# Altium footprint library KF350.PcbLib: 14 footprints
Each footprint in its own frame and in the unit in brackets; x right, y up, seen from the top. Pads: shape width x height; smd on the part's side, far side on the other; paste and mask are expansions set on the pad; w line width, h text height; cw(c..) or ccw(c..) is an arc to the next point about the centre after c.
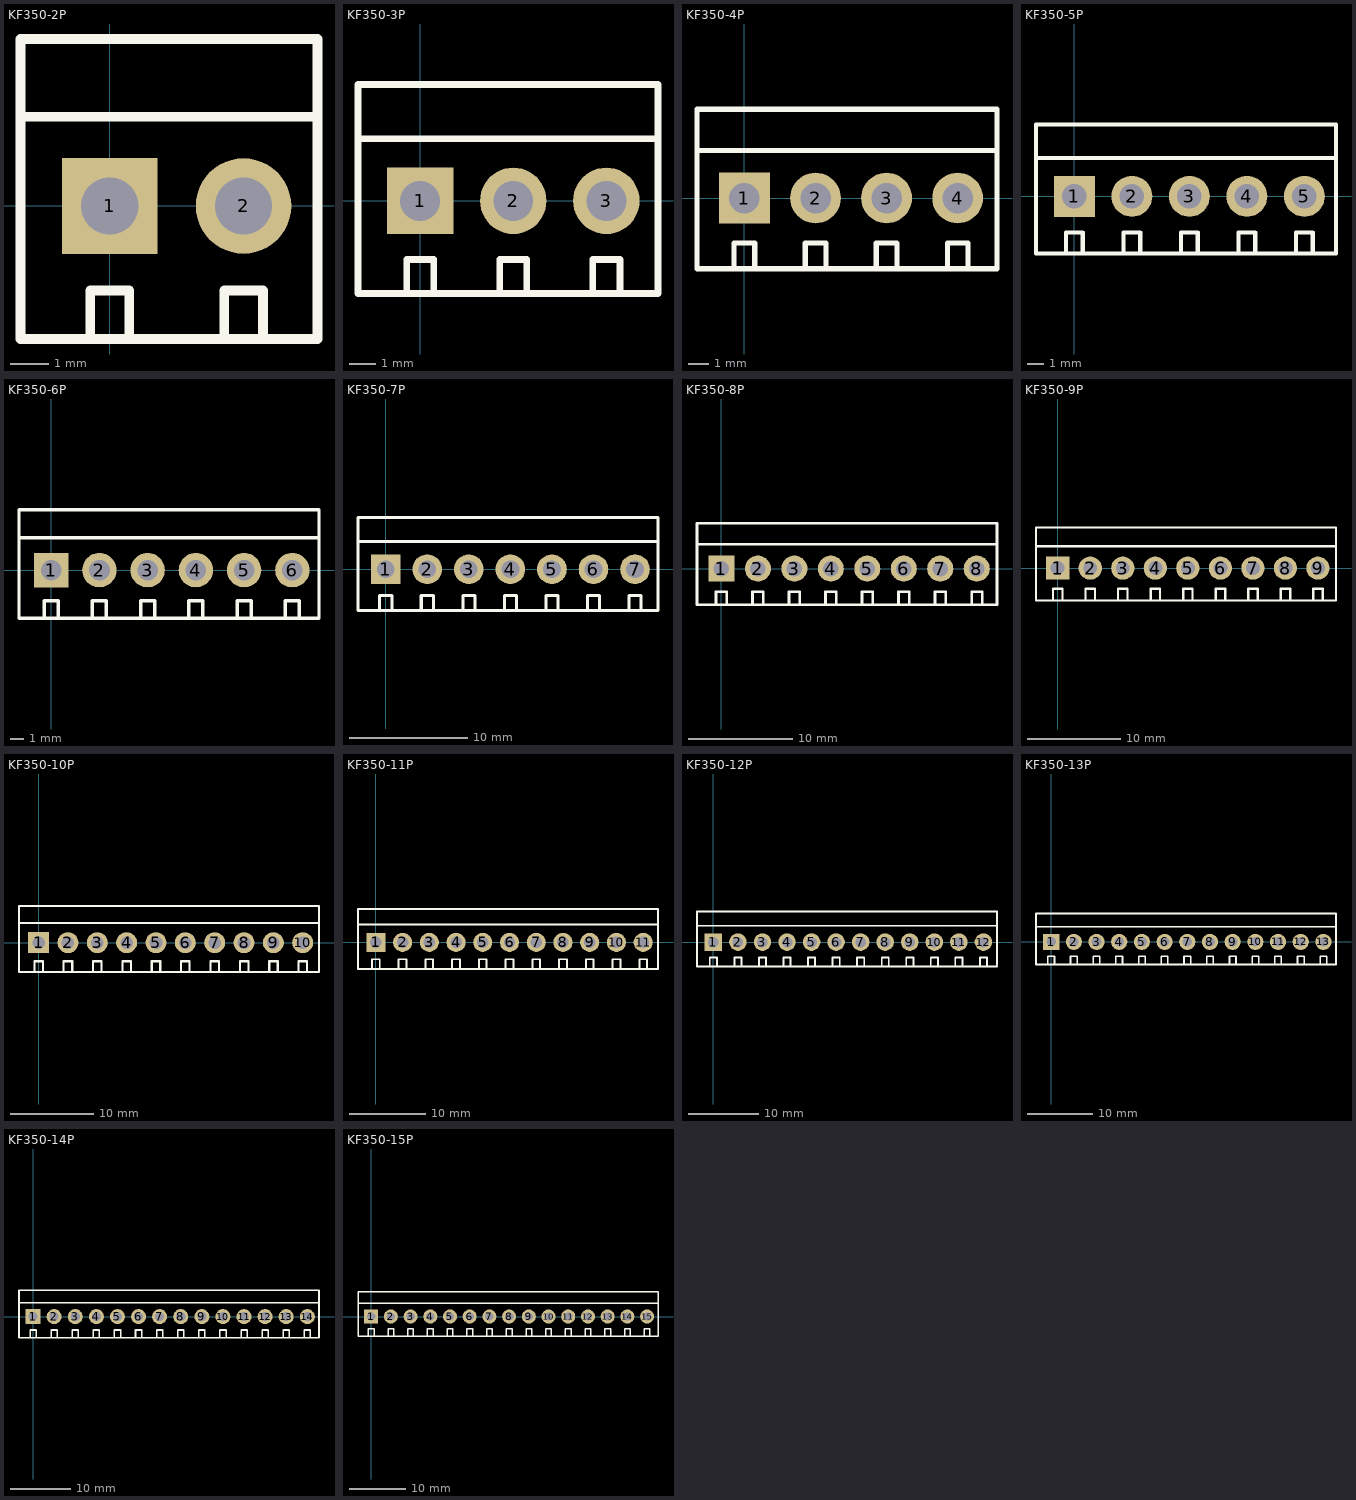
[diagram p0: the footprints below, top view; thin cyan lines are the x and y axes]

## KF350-2P [mm] "可拼接端子/10A"
pads (2):
  rect 2.5x2.5 hole 1.5: 1(0,0)
  round 2.5 hole 1.5: 2(3.5,0)
Top Overlay:
  lines w0.254: -2.337,2.337 5.436,2.337 ; -0.508,-3.48 -0.508,-2.21 0.508,-2.21 0.508,-3.48 ; 2.992,-3.48 2.992,-2.21 4.008,-2.21 4.008,-3.48 ; -2.337,-3.48 -2.337,4.369 5.436,4.369 5.436,-3.48 -2.337,-3.48
3D body "KF350.STEP": height 10, standoff -3.8, extent -2.147,-3.344 1.753,4.156
3D body "KF350.STEP": height 10, standoff -3.8, extent 1.353,-3.344 5.253,4.156

## KF350-3P [mm] "可拼接端子/10A"
pads (3):
  rect 2.5x2.5 hole 1.5: 1(0,0)
  round 2.5 hole 1.5: 2(3.5,0) 3(7,0)
Top Overlay:
  lines w0.254: -2.337,2.337 8.941,2.337 ; -0.508,-3.48 -0.508,-2.21 0.508,-2.21 0.508,-3.48 ; 2.992,-3.48 2.992,-2.21 4.008,-2.21 4.008,-3.48 ; 6.492,-3.48 6.492,-2.21 7.508,-2.21 7.508,-3.48 ; -2.337,-3.48 -2.337,4.369 8.941,4.369 8.941,-3.48 -2.337,-3.48
3D body "KF350.STEP": height 10, standoff -3.8, extent 4.853,-3.343 8.753,4.156
3D body "KF350.STEP": height 10, standoff -3.8, extent 1.353,-3.344 5.253,4.156
3D body "KF350.STEP": height 10, standoff -3.8, extent -2.147,-3.344 1.753,4.156

## KF350-4P [mm] "可拼接端子/10A"
pads (4):
  rect 2.5x2.5 hole 1.5: 1(0,0)
  round 2.5 hole 1.5: 2(3.5,0) 3(7,0) 4(10.5,0)
Top Overlay:
  lines w0.254: -2.337,2.337 12.436,2.337 ; -0.508,-3.48 -0.508,-2.21 0.508,-2.21 0.508,-3.48 ; 2.992,-3.48 2.992,-2.21 4.008,-2.21 4.008,-3.48 ; 6.492,-3.48 6.492,-2.21 7.508,-2.21 7.508,-3.48 ; 9.992,-3.48 9.992,-2.21 11.008,-2.21 11.008,-3.48 ; -2.337,-3.48 -2.337,4.369 12.436,4.369 12.436,-3.48 -2.337,-3.48
3D body "KF350.STEP": height 10, standoff -3.8, extent -2.147,-3.344 1.753,4.156
3D body "KF350.STEP": height 10, standoff -3.8, extent 1.353,-3.344 5.253,4.156
3D body "KF350.STEP": height 10, standoff -3.8, extent 4.853,-3.343 8.753,4.156
3D body "KF350.STEP": height 10, standoff -3.8, extent 8.353,-3.344 12.253,4.156

## KF350-5P [mm] "可拼接端子/10A"
pads (5):
  rect 2.5x2.5 hole 1.5: 1(0,0)
  round 2.5 hole 1.5: 2(3.5,0) 3(7,0) 4(10.5,0) 5(14,0)
Top Overlay:
  lines w0.254: -2.337,2.337 15.926,2.337 ; -0.508,-3.48 -0.508,-2.21 0.508,-2.21 0.508,-3.48 ; 2.992,-3.48 2.992,-2.21 4.008,-2.21 4.008,-3.48 ; 6.492,-3.48 6.492,-2.21 7.508,-2.21 7.508,-3.48 ; 9.992,-3.48 9.992,-2.21 11.008,-2.21 11.008,-3.48 ; 13.492,-3.48 13.492,-2.21 14.508,-2.21 14.508,-3.48 ; -2.337,-3.48 15.926,-3.48 15.926,4.369 -2.337,4.369 -2.337,-3.48
3D body "KF350.STEP": height 10, standoff -3.8, extent 8.353,-3.344 12.253,4.156
3D body "KF350.STEP": height 10, standoff -3.8, extent 11.853,-3.344 15.753,4.156
3D body "KF350.STEP": height 10, standoff -3.8, extent 4.853,-3.343 8.753,4.156
3D body "KF350.STEP": height 10, standoff -3.8, extent 1.353,-3.344 5.253,4.156
3D body "KF350.STEP": height 10, standoff -3.8, extent -2.147,-3.344 1.753,4.156

## KF350-6P [mm] "可拼接端子/10A"
pads (6):
  rect 2.5x2.5 hole 1.5: 1(0,0)
  round 2.5 hole 1.5: 2(3.5,0) 3(7,0) 4(10.5,0) 5(14,0) 6(17.5,0)
Top Overlay:
  lines w0.254: -2.337,2.337 19.41,2.337 ; -0.508,-3.48 -0.508,-2.21 0.508,-2.21 0.508,-3.48 ; 2.992,-3.48 2.992,-2.21 4.008,-2.21 4.008,-3.48 ; 6.492,-3.48 6.492,-2.21 7.508,-2.21 7.508,-3.48 ; 9.992,-3.48 9.992,-2.21 11.008,-2.21 11.008,-3.48 ; 13.492,-3.48 13.492,-2.21 14.508,-2.21 14.508,-3.48 ; 16.993,-3.48 16.993,-2.21 18.009,-2.21 18.009,-3.48 ; -2.337,-3.48 -2.337,4.369 19.436,4.369 19.436,-3.48 -2.337,-3.48
3D body "KF350.STEP": height 10, standoff -3.8, extent 8.353,-3.344 12.253,4.156
3D body "KF350.STEP": height 10, standoff -3.8, extent 11.853,-3.344 15.753,4.156
3D body "KF350.STEP": height 10, standoff -3.8, extent 15.353,-3.343 19.253,4.156
3D body "KF350.STEP": height 10, standoff -3.8, extent 4.853,-3.343 8.753,4.156
3D body "KF350.STEP": height 10, standoff -3.8, extent 1.353,-3.344 5.253,4.156
3D body "KF350.STEP": height 10, standoff -3.8, extent -2.147,-3.344 1.753,4.156

## KF350-7P [mm] "可拼接端子/10A"
pads (7):
  rect 2.5x2.5 hole 1.5: 1(0,0)
  round 2.5 hole 1.5: 2(3.5,0) 3(7,0) 4(10.5,0) 5(14,0) 6(17.5,0) 7(21,0)
Top Overlay:
  lines w0.254: -2.337,2.337 22.936,2.337 ; -0.508,-3.48 -0.508,-2.21 0.508,-2.21 0.508,-3.48 ; 2.992,-3.48 2.992,-2.21 4.008,-2.21 4.008,-3.48 ; 6.492,-3.48 6.492,-2.21 7.508,-2.21 7.508,-3.48 ; 9.992,-3.48 9.992,-2.21 11.008,-2.21 11.008,-3.48 ; 13.492,-3.48 13.492,-2.21 14.508,-2.21 14.508,-3.48 ; 16.993,-3.48 16.993,-2.21 18.009,-2.21 18.009,-3.48 ; 20.498,-3.48 20.498,-2.21 21.514,-2.21 21.514,-3.48 ; -2.337,-3.48 -2.337,4.369 22.936,4.369 22.936,-3.48 -2.337,-3.48
3D body "KF350.STEP": height 10, standoff -3.8, extent -2.147,-3.344 1.753,4.156
3D body "KF350.STEP": height 10, standoff -3.8, extent 1.353,-3.344 5.253,4.156
3D body "KF350.STEP": height 10, standoff -3.8, extent 4.853,-3.343 8.753,4.156
3D body "KF350.STEP": height 10, standoff -3.8, extent 15.353,-3.343 19.253,4.156
3D body "KF350.STEP": height 10, standoff -3.8, extent 11.853,-3.344 15.753,4.156
3D body "KF350.STEP": height 10, standoff -3.8, extent 8.353,-3.344 12.253,4.156
3D body "KF350.STEP": height 10, standoff -3.8, extent 18.853,-3.344 22.753,4.156

## KF350-8P [mm] "可拼接端子/10A"
pads (8):
  rect 2.5x2.5 hole 1.5: 1(0,0)
  round 2.5 hole 1.5: 2(3.5,0) 3(7,0) 4(10.5,0) 5(14,0) 6(17.5,0) 7(21,0) 8(24.5,0)
Top Overlay:
  lines w0.254: -2.337,2.337 26.441,2.337 ; -0.508,-3.48 -0.508,-2.21 0.508,-2.21 0.508,-3.48 ; 2.992,-3.48 2.992,-2.21 4.008,-2.21 4.008,-3.48 ; 6.492,-3.48 6.492,-2.21 7.508,-2.21 7.508,-3.48 ; 9.992,-3.48 9.992,-2.21 11.008,-2.21 11.008,-3.48 ; 13.492,-3.48 13.492,-2.21 14.508,-2.21 14.508,-3.48 ; 16.993,-3.48 16.993,-2.21 18.009,-2.21 18.009,-3.48 ; 20.498,-3.48 20.498,-2.21 21.514,-2.21 21.514,-3.48 ; 24.003,-3.48 24.003,-2.21 25.019,-2.21 25.019,-3.48 ; -2.337,-3.48 26.441,-3.48 26.441,4.369 -2.337,4.369 -2.337,-3.48
3D body "KF350.STEP": height 10, standoff -3.8, extent -2.147,-3.344 1.753,4.156
3D body "KF350.STEP": height 10, standoff -3.8, extent 1.353,-3.344 5.253,4.156
3D body "KF350.STEP": height 10, standoff -3.8, extent 4.853,-3.343 8.753,4.156
3D body "KF350.STEP": height 10, standoff -3.8, extent 15.353,-3.343 19.253,4.156
3D body "KF350.STEP": height 10, standoff -3.8, extent 11.853,-3.344 15.753,4.156
3D body "KF350.STEP": height 10, standoff -3.8, extent 8.353,-3.344 12.253,4.156
3D body "KF350.STEP": height 10, standoff -3.8, extent 22.353,-3.344 26.253,4.156
3D body "KF350.STEP": height 10, standoff -3.8, extent 18.853,-3.344 22.753,4.156

## KF350-9P [mm] "可拼接端子/10A"
pads (9):
  rect 2.5x2.5 hole 1.5: 1(0,0)
  round 2.5 hole 1.5: 2(3.5,0) 3(7,0) 4(10.5,0) 5(14,0) 6(17.5,0) 7(21,0) 8(24.5,0) 9(28,0)
Top Overlay:
  lines w0.254: -2.337,2.337 26.441,2.337 29.903,2.337 ; -0.508,-3.48 -0.508,-2.21 0.508,-2.21 0.508,-3.48 ; 2.992,-3.48 2.992,-2.21 4.008,-2.21 4.008,-3.48 ; 6.492,-3.48 6.492,-2.21 7.508,-2.21 7.508,-3.48 ; 9.992,-3.48 9.992,-2.21 11.008,-2.21 11.008,-3.48 ; 13.492,-3.48 13.492,-2.21 14.508,-2.21 14.508,-3.48 ; 16.993,-3.48 16.993,-2.21 18.009,-2.21 18.009,-3.48 ; 20.498,-3.48 20.498,-2.21 21.514,-2.21 21.514,-3.48 ; 24.003,-3.48 24.003,-2.21 25.019,-2.21 25.019,-3.48 ; 27.503,-3.48 27.503,-2.21 28.519,-2.21 28.519,-3.48 ; -2.337,-3.48 26.441,-3.48 29.941,-3.48 29.941,4.369 26.441,4.369 -2.337,4.369 -2.337,-3.48
3D body "KF350.STEP": height 10, standoff -3.8, extent 18.853,-3.344 22.753,4.156
3D body "KF350.STEP": height 10, standoff -3.8, extent 22.353,-3.344 26.253,4.156
3D body "KF350.STEP": height 10, standoff -3.8, extent 25.853,-3.344 29.753,4.156
3D body "KF350.STEP": height 10, standoff -3.8, extent 8.353,-3.344 12.253,4.156
3D body "KF350.STEP": height 10, standoff -3.8, extent 11.853,-3.344 15.753,4.156
3D body "KF350.STEP": height 10, standoff -3.8, extent 15.353,-3.343 19.253,4.156
3D body "KF350.STEP": height 10, standoff -3.8, extent 4.853,-3.343 8.753,4.156
3D body "KF350.STEP": height 10, standoff -3.8, extent 1.353,-3.344 5.253,4.156
3D body "KF350.STEP": height 10, standoff -3.8, extent -2.147,-3.344 1.753,4.156

## KF350-10P [mm] "可拼接端子/10A"
pads (10):
  rect 2.5x2.5 hole 1.5: 1(0,0)
  round 2.5 hole 1.5: 2(3.5,0) 3(7,0) 4(10.5,0) 5(14,0) 6(17.5,0) 7(21,0) 8(24.5,0) 9(28,0) 10(31.5,0)
Top Overlay:
  lines w0.254: -2.337,2.337 26.441,2.337 29.903,2.337 ; -0.508,-3.48 -0.508,-2.21 0.508,-2.21 0.508,-3.48 ; 2.992,-3.48 2.992,-2.21 4.008,-2.21 4.008,-3.48 ; 6.492,-3.48 6.492,-2.21 7.508,-2.21 7.508,-3.48 ; 9.992,-3.48 9.992,-2.21 11.008,-2.21 11.008,-3.48 ; 13.492,-3.48 13.492,-2.21 14.508,-2.21 14.508,-3.48 ; 16.993,-3.48 16.993,-2.21 18.009,-2.21 18.009,-3.48 ; 20.498,-3.48 20.498,-2.21 21.514,-2.21 21.514,-3.48 ; 24.003,-3.48 24.003,-2.21 25.019,-2.21 25.019,-3.48 ; 27.503,-3.48 27.503,-2.21 28.519,-2.21 28.519,-3.48 ; 29.941,2.337 33.403,2.337 ; 31.003,-3.48 31.003,-2.21 32.019,-2.21 32.019,-3.48 ; -2.337,-3.48 -2.337,4.369 26.441,4.369 29.941,4.369 33.441,4.369 33.441,-3.48 29.941,-3.48 26.441,-3.48 -2.337,-3.48
3D body "KF350.STEP": height 10, standoff -3.8, extent -2.147,-3.344 1.753,4.156
3D body "KF350.STEP": height 10, standoff -3.8, extent 1.353,-3.344 5.253,4.156
3D body "KF350.STEP": height 10, standoff -3.8, extent 4.853,-3.343 8.753,4.156
3D body "KF350.STEP": height 10, standoff -3.8, extent 15.353,-3.343 19.253,4.156
3D body "KF350.STEP": height 10, standoff -3.8, extent 11.853,-3.344 15.753,4.156
3D body "KF350.STEP": height 10, standoff -3.8, extent 8.353,-3.344 12.253,4.156
3D body "KF350.STEP": height 10, standoff -3.8, extent 25.853,-3.344 29.753,4.156
3D body "KF350.STEP": height 10, standoff -3.8, extent 22.353,-3.344 26.253,4.156
3D body "KF350.STEP": height 10, standoff -3.8, extent 18.853,-3.344 22.753,4.156
3D body "KF350.STEP": height 10, standoff -3.8, extent 29.353,-3.344 33.253,4.156

## KF350-11P [mm] "可拼接端子/10A"
pads (11):
  rect 2.5x2.5 hole 1.5: 1(0,0)
  round 2.5 hole 1.5: 2(3.5,0) 3(7,0) 4(10.5,0) 5(14,0) 6(17.5,0) 7(21,0) 8(24.5,0) 9(28,0) 10(31.5,0) 11(35,0)
Top Overlay:
  lines w0.254: -2.337,2.337 26.441,2.337 29.903,2.337 ; -0.508,-3.48 -0.508,-2.21 0.508,-2.21 0.508,-3.48 ; 2.992,-3.48 2.992,-2.21 4.008,-2.21 4.008,-3.48 ; 6.492,-3.48 6.492,-2.21 7.508,-2.21 7.508,-3.48 ; 9.992,-3.48 9.992,-2.21 11.008,-2.21 11.008,-3.48 ; 13.492,-3.48 13.492,-2.21 14.508,-2.21 14.508,-3.48 ; 16.993,-3.48 16.993,-2.21 18.009,-2.21 18.009,-3.48 ; 20.498,-3.48 20.498,-2.21 21.514,-2.21 21.514,-3.48 ; 24.003,-3.48 24.003,-2.21 25.019,-2.21 25.019,-3.48 ; 27.503,-3.48 27.503,-2.21 28.519,-2.21 28.519,-3.48 ; 29.941,2.337 33.403,2.337 ; 31.003,-3.48 31.003,-2.21 32.019,-2.21 32.019,-3.48 ; 33.441,2.337 36.903,2.337 ; 34.503,-3.48 34.503,-2.21 35.519,-2.21 35.519,-3.48 ; -2.337,-3.48 -2.337,4.369 26.441,4.369 29.941,4.369 33.441,4.369 36.941,4.369 36.941,-3.48 33.441,-3.48 29.941,-3.48 26.441,-3.48 -2.337,-3.48
3D body "KF350.STEP": height 10, standoff -3.8, extent -2.147,-3.344 1.753,4.156
3D body "KF350.STEP": height 10, standoff -3.8, extent 1.353,-3.344 5.253,4.156
3D body "KF350.STEP": height 10, standoff -3.8, extent 4.853,-3.343 8.753,4.156
3D body "KF350.STEP": height 10, standoff -3.8, extent 15.353,-3.343 19.253,4.156
3D body "KF350.STEP": height 10, standoff -3.8, extent 11.853,-3.344 15.753,4.156
3D body "KF350.STEP": height 10, standoff -3.8, extent 8.353,-3.344 12.253,4.156
3D body "KF350.STEP": height 10, standoff -3.8, extent 25.853,-3.344 29.753,4.156
3D body "KF350.STEP": height 10, standoff -3.8, extent 22.353,-3.344 26.253,4.156
3D body "KF350.STEP": height 10, standoff -3.8, extent 18.853,-3.344 22.753,4.156
3D body "KF350.STEP": height 10, standoff -3.8, extent 32.853,-3.344 36.753,4.156
3D body "KF350.STEP": height 10, standoff -3.8, extent 29.353,-3.344 33.253,4.156

## KF350-12P [mm] "可拼接端子/10A"
pads (12):
  rect 2.5x2.5 hole 1.5: 1(0,0)
  round 2.5 hole 1.5: 2(3.5,0) 3(7,0) 4(10.5,0) 5(14,0) 6(17.5,0) 7(21,0) 8(24.5,0) 9(28,0) 10(31.5,0) 11(35,0) 12(38.5,0)
Top Overlay:
  lines w0.254: -2.337,2.337 26.441,2.337 29.903,2.337 ; -0.508,-3.48 -0.508,-2.21 0.508,-2.21 0.508,-3.48 ; 2.992,-3.48 2.992,-2.21 4.008,-2.21 4.008,-3.48 ; 6.492,-3.48 6.492,-2.21 7.508,-2.21 7.508,-3.48 ; 9.992,-3.48 9.992,-2.21 11.008,-2.21 11.008,-3.48 ; 13.492,-3.48 13.492,-2.21 14.508,-2.21 14.508,-3.48 ; 16.993,-3.48 16.993,-2.21 18.009,-2.21 18.009,-3.48 ; 20.498,-3.48 20.498,-2.21 21.514,-2.21 21.514,-3.48 ; 24.003,-3.48 24.003,-2.21 25.019,-2.21 25.019,-3.48 ; 27.503,-3.48 27.503,-2.21 28.519,-2.21 28.519,-3.48 ; 29.941,2.337 33.403,2.337 ; 31.003,-3.48 31.003,-2.21 32.019,-2.21 32.019,-3.48 ; 33.441,2.337 36.903,2.337 ; 34.503,-3.48 34.503,-2.21 35.519,-2.21 35.519,-3.48 ; 36.941,2.337 40.403,2.337 ; 38.003,-3.48 38.003,-2.21 39.019,-2.21 39.019,-3.48 ; 40.441,-3.48 36.941,-3.48 33.441,-3.48 29.941,-3.48 26.441,-3.48 -2.337,-3.48 -2.337,4.369 26.441,4.369 29.941,4.369 33.441,4.369 36.941,4.369 40.441,4.369 40.441,-3.309
3D body "KF350.STEP": height 10, standoff -3.8, extent -2.147,-3.344 1.753,4.156
3D body "KF350.STEP": height 10, standoff -3.8, extent 1.353,-3.344 5.253,4.156
3D body "KF350.STEP": height 10, standoff -3.8, extent 4.853,-3.343 8.753,4.156
3D body "KF350.STEP": height 10, standoff -3.8, extent 15.353,-3.343 19.253,4.156
3D body "KF350.STEP": height 10, standoff -3.8, extent 11.853,-3.344 15.753,4.156
3D body "KF350.STEP": height 10, standoff -3.8, extent 8.353,-3.344 12.253,4.156
3D body "KF350.STEP": height 10, standoff -3.8, extent 25.853,-3.344 29.753,4.156
3D body "KF350.STEP": height 10, standoff -3.8, extent 22.353,-3.344 26.253,4.156
3D body "KF350.STEP": height 10, standoff -3.8, extent 18.853,-3.344 22.753,4.156
3D body "KF350.STEP": height 10, standoff -3.8, extent 36.353,-3.344 40.253,4.156
3D body "KF350.STEP": height 10, standoff -3.8, extent 32.853,-3.344 36.753,4.156
3D body "KF350.STEP": height 10, standoff -3.8, extent 29.353,-3.344 33.253,4.156

## KF350-13P [mm] "可拼接端子/10A"
pads (13):
  rect 2.5x2.5 hole 1.5: 1(0,0)
  round 2.5 hole 1.5: 2(3.5,0) 3(7,0) 4(10.5,0) 5(14,0) 6(17.5,0) 7(21,0) 8(24.5,0) 9(28,0) 10(31.5,0) 11(35,0) 12(38.5,0) 13(42,0)
Top Overlay:
  lines w0.254: -2.337,2.337 26.441,2.337 29.903,2.337 ; -0.508,-3.48 -0.508,-2.21 0.508,-2.21 0.508,-3.48 ; 2.992,-3.48 2.992,-2.21 4.008,-2.21 4.008,-3.48 ; 6.492,-3.48 6.492,-2.21 7.508,-2.21 7.508,-3.48 ; 9.992,-3.48 9.992,-2.21 11.008,-2.21 11.008,-3.48 ; 13.492,-3.48 13.492,-2.21 14.508,-2.21 14.508,-3.48 ; 16.993,-3.48 16.993,-2.21 18.009,-2.21 18.009,-3.48 ; 20.498,-3.48 20.498,-2.21 21.514,-2.21 21.514,-3.48 ; 24.003,-3.48 24.003,-2.21 25.019,-2.21 25.019,-3.48 ; 27.503,-3.48 27.503,-2.21 28.519,-2.21 28.519,-3.48 ; 29.941,2.337 33.403,2.337 ; 31.003,-3.48 31.003,-2.21 32.019,-2.21 32.019,-3.48 ; 33.441,2.337 36.903,2.337 ; 34.503,-3.48 34.503,-2.21 35.519,-2.21 35.519,-3.48 ; 36.941,2.337 40.403,2.337 ; 38.003,-3.48 38.003,-2.21 39.019,-2.21 39.019,-3.48 ; 40.441,2.337 43.903,2.337 ; 41.503,-3.48 41.503,-2.21 42.519,-2.21 42.519,-3.48 ; -2.337,-3.48 26.441,-3.48 29.941,-3.48 33.441,-3.48 36.941,-3.48 40.441,-3.48 43.941,-3.48 43.941,4.369 40.441,4.369 36.941,4.369 33.441,4.369 29.941,4.369 26.441,4.369 -2.337,4.369 -2.337,-3.48
3D body "KF350.STEP": height 10, standoff -3.8, extent 39.853,-3.344 43.753,4.156
3D body "KF350.STEP": height 10, standoff -3.8, extent 29.353,-3.344 33.253,4.156
3D body "KF350.STEP": height 10, standoff -3.8, extent 32.853,-3.344 36.753,4.156
3D body "KF350.STEP": height 10, standoff -3.8, extent 36.353,-3.344 40.253,4.156
3D body "KF350.STEP": height 10, standoff -3.8, extent 18.853,-3.344 22.753,4.156
3D body "KF350.STEP": height 10, standoff -3.8, extent 22.353,-3.344 26.253,4.156
3D body "KF350.STEP": height 10, standoff -3.8, extent 25.853,-3.344 29.753,4.156
3D body "KF350.STEP": height 10, standoff -3.8, extent 8.353,-3.344 12.253,4.156
3D body "KF350.STEP": height 10, standoff -3.8, extent 11.853,-3.344 15.753,4.156
3D body "KF350.STEP": height 10, standoff -3.8, extent 15.353,-3.343 19.253,4.156
3D body "KF350.STEP": height 10, standoff -3.8, extent 4.853,-3.343 8.753,4.156
3D body "KF350.STEP": height 10, standoff -3.8, extent 1.353,-3.344 5.253,4.156
3D body "KF350.STEP": height 10, standoff -3.8, extent -2.147,-3.344 1.753,4.156

## KF350-14P [mm] "可拼接端子/10A"
pads (14):
  rect 2.5x2.5 hole 1.5: 1(0,0)
  round 2.5 hole 1.5: 2(3.5,0) 3(7,0) 4(10.5,0) 5(14,0) 6(17.5,0) 7(21,0) 8(24.5,0) 9(28,0) 10(31.5,0) 11(35,0) 12(38.5,0) 13(42,0) 14(45.5,0)
Top Overlay:
  lines w0.254: -2.337,2.337 26.441,2.337 29.903,2.337 ; -0.508,-3.48 -0.508,-2.21 0.508,-2.21 0.508,-3.48 ; 2.992,-3.48 2.992,-2.21 4.008,-2.21 4.008,-3.48 ; 6.492,-3.48 6.492,-2.21 7.508,-2.21 7.508,-3.48 ; 9.992,-3.48 9.992,-2.21 11.008,-2.21 11.008,-3.48 ; 13.492,-3.48 13.492,-2.21 14.508,-2.21 14.508,-3.48 ; 16.993,-3.48 16.993,-2.21 18.009,-2.21 18.009,-3.48 ; 20.498,-3.48 20.498,-2.21 21.514,-2.21 21.514,-3.48 ; 24.003,-3.48 24.003,-2.21 25.019,-2.21 25.019,-3.48 ; 27.503,-3.48 27.503,-2.21 28.519,-2.21 28.519,-3.48 ; 29.941,2.337 33.403,2.337 ; 31.003,-3.48 31.003,-2.21 32.019,-2.21 32.019,-3.48 ; 33.441,2.337 36.903,2.337 ; 34.503,-3.48 34.503,-2.21 35.519,-2.21 35.519,-3.48 ; 36.941,2.337 40.403,2.337 ; 38.003,-3.48 38.003,-2.21 39.019,-2.21 39.019,-3.48 ; 40.441,2.337 43.903,2.337 ; 41.503,-3.48 41.503,-2.21 42.519,-2.21 42.519,-3.48 ; 43.941,2.337 47.403,2.337 ; 45.003,-3.48 45.003,-2.21 46.019,-2.21 46.019,-3.48 ; -2.337,-3.48 -2.337,4.369 26.441,4.369 29.941,4.369 33.441,4.369 36.941,4.369 40.441,4.369 43.941,4.369 47.441,4.369 47.441,-3.48 43.941,-3.48 40.441,-3.48 36.941,-3.48 33.441,-3.48 29.941,-3.48 26.441,-3.48 -2.337,-3.48
3D body "KF350.STEP": height 10, standoff -3.8, extent -2.147,-3.344 1.753,4.156
3D body "KF350.STEP": height 10, standoff -3.8, extent 1.353,-3.344 5.253,4.156
3D body "KF350.STEP": height 10, standoff -3.8, extent 4.853,-3.343 8.753,4.156
3D body "KF350.STEP": height 10, standoff -3.8, extent 15.353,-3.343 19.253,4.156
3D body "KF350.STEP": height 10, standoff -3.8, extent 11.853,-3.344 15.753,4.156
3D body "KF350.STEP": height 10, standoff -3.8, extent 8.353,-3.344 12.253,4.156
3D body "KF350.STEP": height 10, standoff -3.8, extent 25.853,-3.344 29.753,4.156
3D body "KF350.STEP": height 10, standoff -3.8, extent 22.353,-3.344 26.253,4.156
3D body "KF350.STEP": height 10, standoff -3.8, extent 18.853,-3.344 22.753,4.156
3D body "KF350.STEP": height 10, standoff -3.8, extent 36.353,-3.344 40.253,4.156
3D body "KF350.STEP": height 10, standoff -3.8, extent 32.853,-3.344 36.753,4.156
3D body "KF350.STEP": height 10, standoff -3.8, extent 29.353,-3.344 33.253,4.156
3D body "KF350.STEP": height 10, standoff -3.8, extent 43.353,-3.344 47.253,4.156
3D body "KF350.STEP": height 10, standoff -3.8, extent 39.853,-3.344 43.753,4.156

## KF350-15P [mm] "可拼接端子/10A"
pads (15):
  rect 2.5x2.5 hole 1.5: 1(0,0)
  round 2.5 hole 1.5: 2(3.5,0) 3(7,0) 4(10.5,0) 5(14,0) 6(17.5,0) 7(21,0) 8(24.5,0) 9(28,0) 10(31.5,0) 11(35,0) 12(38.5,0) 13(42,0) 14(45.5,0) 15(49,0)
Top Overlay:
  lines w0.254: -2.337,2.337 26.441,2.337 29.903,2.337 ; -0.508,-3.48 -0.508,-2.21 0.508,-2.21 0.508,-3.48 ; 2.992,-3.48 2.992,-2.21 4.008,-2.21 4.008,-3.48 ; 6.492,-3.48 6.492,-2.21 7.508,-2.21 7.508,-3.48 ; 9.992,-3.48 9.992,-2.21 11.008,-2.21 11.008,-3.48 ; 13.492,-3.48 13.492,-2.21 14.508,-2.21 14.508,-3.48 ; 16.993,-3.48 16.993,-2.21 18.009,-2.21 18.009,-3.48 ; 20.498,-3.48 20.498,-2.21 21.514,-2.21 21.514,-3.48 ; 24.003,-3.48 24.003,-2.21 25.019,-2.21 25.019,-3.48 ; 27.503,-3.48 27.503,-2.21 28.519,-2.21 28.519,-3.48 ; 29.941,2.337 33.403,2.337 ; 31.003,-3.48 31.003,-2.21 32.019,-2.21 32.019,-3.48 ; 33.441,2.337 36.903,2.337 ; 34.503,-3.48 34.503,-2.21 35.519,-2.21 35.519,-3.48 ; 36.941,2.337 40.403,2.337 ; 38.003,-3.48 38.003,-2.21 39.019,-2.21 39.019,-3.48 ; 40.441,2.337 43.903,2.337 ; 41.503,-3.48 41.503,-2.21 42.519,-2.21 42.519,-3.48 ; 43.941,2.337 47.403,2.337 ; 45.003,-3.48 45.003,-2.21 46.019,-2.21 46.019,-3.48 ; 47.441,2.337 50.903,2.337 ; 48.503,-3.48 48.503,-2.21 49.519,-2.21 49.519,-3.48 ; -2.337,-3.48 26.441,-3.48 29.941,-3.48 33.441,-3.48 36.941,-3.48 40.441,-3.48 43.941,-3.48 47.441,-3.48 50.941,-3.48 50.941,4.369 47.441,4.369 43.941,4.369 40.441,4.369 36.941,4.369 33.441,4.369 29.941,4.369 26.441,4.369 -2.337,4.369 -2.337,-3.48
3D body "KF350.STEP": height 10, standoff -3.8, extent -2.147,-3.344 1.753,4.156
3D body "KF350.STEP": height 10, standoff -3.8, extent 1.353,-3.344 5.253,4.156
3D body "KF350.STEP": height 10, standoff -3.8, extent 4.853,-3.343 8.753,4.156
3D body "KF350.STEP": height 10, standoff -3.8, extent 15.353,-3.343 19.253,4.156
3D body "KF350.STEP": height 10, standoff -3.8, extent 11.853,-3.344 15.753,4.156
3D body "KF350.STEP": height 10, standoff -3.8, extent 8.353,-3.344 12.253,4.156
3D body "KF350.STEP": height 10, standoff -3.8, extent 25.853,-3.344 29.753,4.156
3D body "KF350.STEP": height 10, standoff -3.8, extent 22.353,-3.344 26.253,4.156
3D body "KF350.STEP": height 10, standoff -3.8, extent 18.853,-3.344 22.753,4.156
3D body "KF350.STEP": height 10, standoff -3.8, extent 36.353,-3.344 40.253,4.156
3D body "KF350.STEP": height 10, standoff -3.8, extent 32.853,-3.344 36.753,4.156
3D body "KF350.STEP": height 10, standoff -3.8, extent 29.353,-3.344 33.253,4.156
3D body "KF350.STEP": height 10, standoff -3.8, extent 46.853,-3.344 50.753,4.156
3D body "KF350.STEP": height 10, standoff -3.8, extent 43.353,-3.344 47.253,4.156
3D body "KF350.STEP": height 10, standoff -3.8, extent 39.853,-3.344 43.753,4.156